# Altium schematic symbol library Components.SchLib: 6 symbols
Pins are listed as number, name and electrical type; pins without a type are passive.

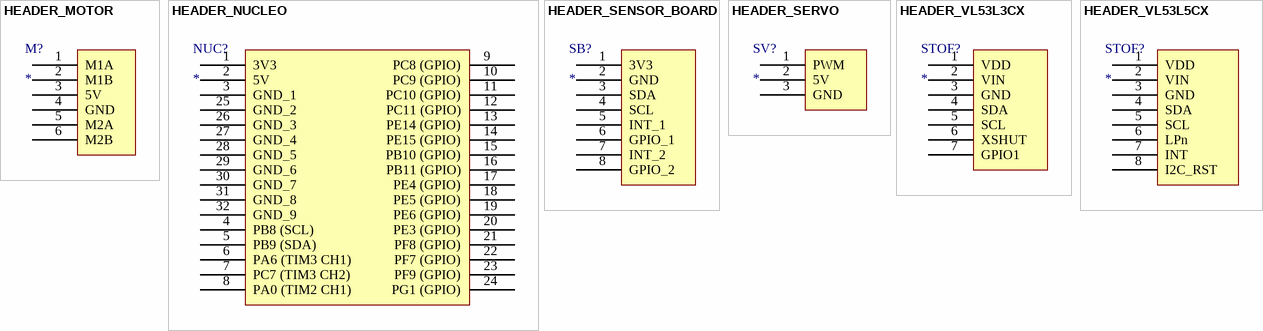
[diagram p0: symbols HEADER_MOTOR to HEADER_VL53L5CX]

## HEADER_MOTOR
designator M?
footprint HEADER_MOTOR
pins: 1 M1A, 2 M1B, 3 5V, 4 GND, 5 M2A, 6 M2B

## HEADER_NUCLEO
designator NUC?
footprint HEADER_NUCLEO (Header for nucleo board); pin to pad 1>7 2>9 3>11 4>48 5>50 6>58 7>57 8>95 9>2 10>4 11>6 12>8 13>94 14>96 15>98 16>100 17>30 18>32 19>34 20>36 21>38 22>40 23>42 24>44 25>13 26>28 27>39 28>54 29>71 30>83 31>88 32>93
pins: 1 3V3, 2 5V, 3 GND_1, 4 PB8 (SCL), 5 PB9 (SDA), 6 PA6 (TIM3 CH1), 7 PC7 (TIM3 CH2), 8 PA0 (TIM2 CH1), 9 PC8 (GPIO), 10 PC9 (GPIO), 11 PC10 (GPIO), 12 PC11 (GPIO), 13 PE14 (GPIO), 14 PE15 (GPIO), 15 PB10 (GPIO), 16 PB11 (GPIO), 17 PE4 (GPIO), 18 PE5 (GPIO), 19 PE6 (GPIO), 20 PE3 (GPIO), 21 PF8 (GPIO), 22 PF7 (GPIO), 23 PF9 (GPIO), 24 PG1 (GPIO), 25 GND_2, 26 GND_3, 27 GND_4, 28 GND_5, 29 GND_6, 30 GND_7, 31 GND_8, 32 GND_9

## HEADER_SENSOR_BOARD
designator SB?
Sensor Board header
footprint HEADER_SENSOR_BOARD
footprint HEADER_SENSOR_BOARD
pins: 1 3V3, 2 GND, 3 SDA, 4 SCL, 5 INT_1, 6 GPIO_1, 7 INT_2, 8 GPIO_2

## HEADER_SERVO
designator SV?
footprint HEADER_3PIN
pins: 1 PWM, 2 5V, 3 GND

## HEADER_VL53L3CX
designator STOF?
VL53L3CX Time-of-Flight Multi-Target Distance Sensor Carrier with Voltage Regulator, 500cm Max
footprint HEADER_VL53L3CX
footprint HEADER_VL53L3CX
pins: 1 VDD, 2 VIN, 3 GND, 4 SDA, 5 SCL, 6 XSHUT, 7 GPIO1

## HEADER_VL53L5CX
designator STOF?
VL53L5CX Time-of-Flight 8×8-Zone Distance Sensor Carrier with Voltage Regulator, 400cm Max
footprint HEADER_VL53L5CX
footprint HEADER_VL53L5CX
pins: 1 VDD, 2 VIN, 3 GND, 4 SDA, 5 SCL, 6 LPn, 7 INT, 8 I2C_RST